# Altium footprint library XG_DW_POCT_2K10LED_V2.0_2024.11.151.PcbLib: 120 footprints (part 2 of 8)
Each footprint in its own frame and in the unit in brackets; x right, y up, seen from the top. Pads: shape width x height; smd on the part's side, far side on the other; paste and mask are expansions set on the pad; w line width, h text height; cw(c..) or ccw(c..) is an arc to the next point about the centre after c.
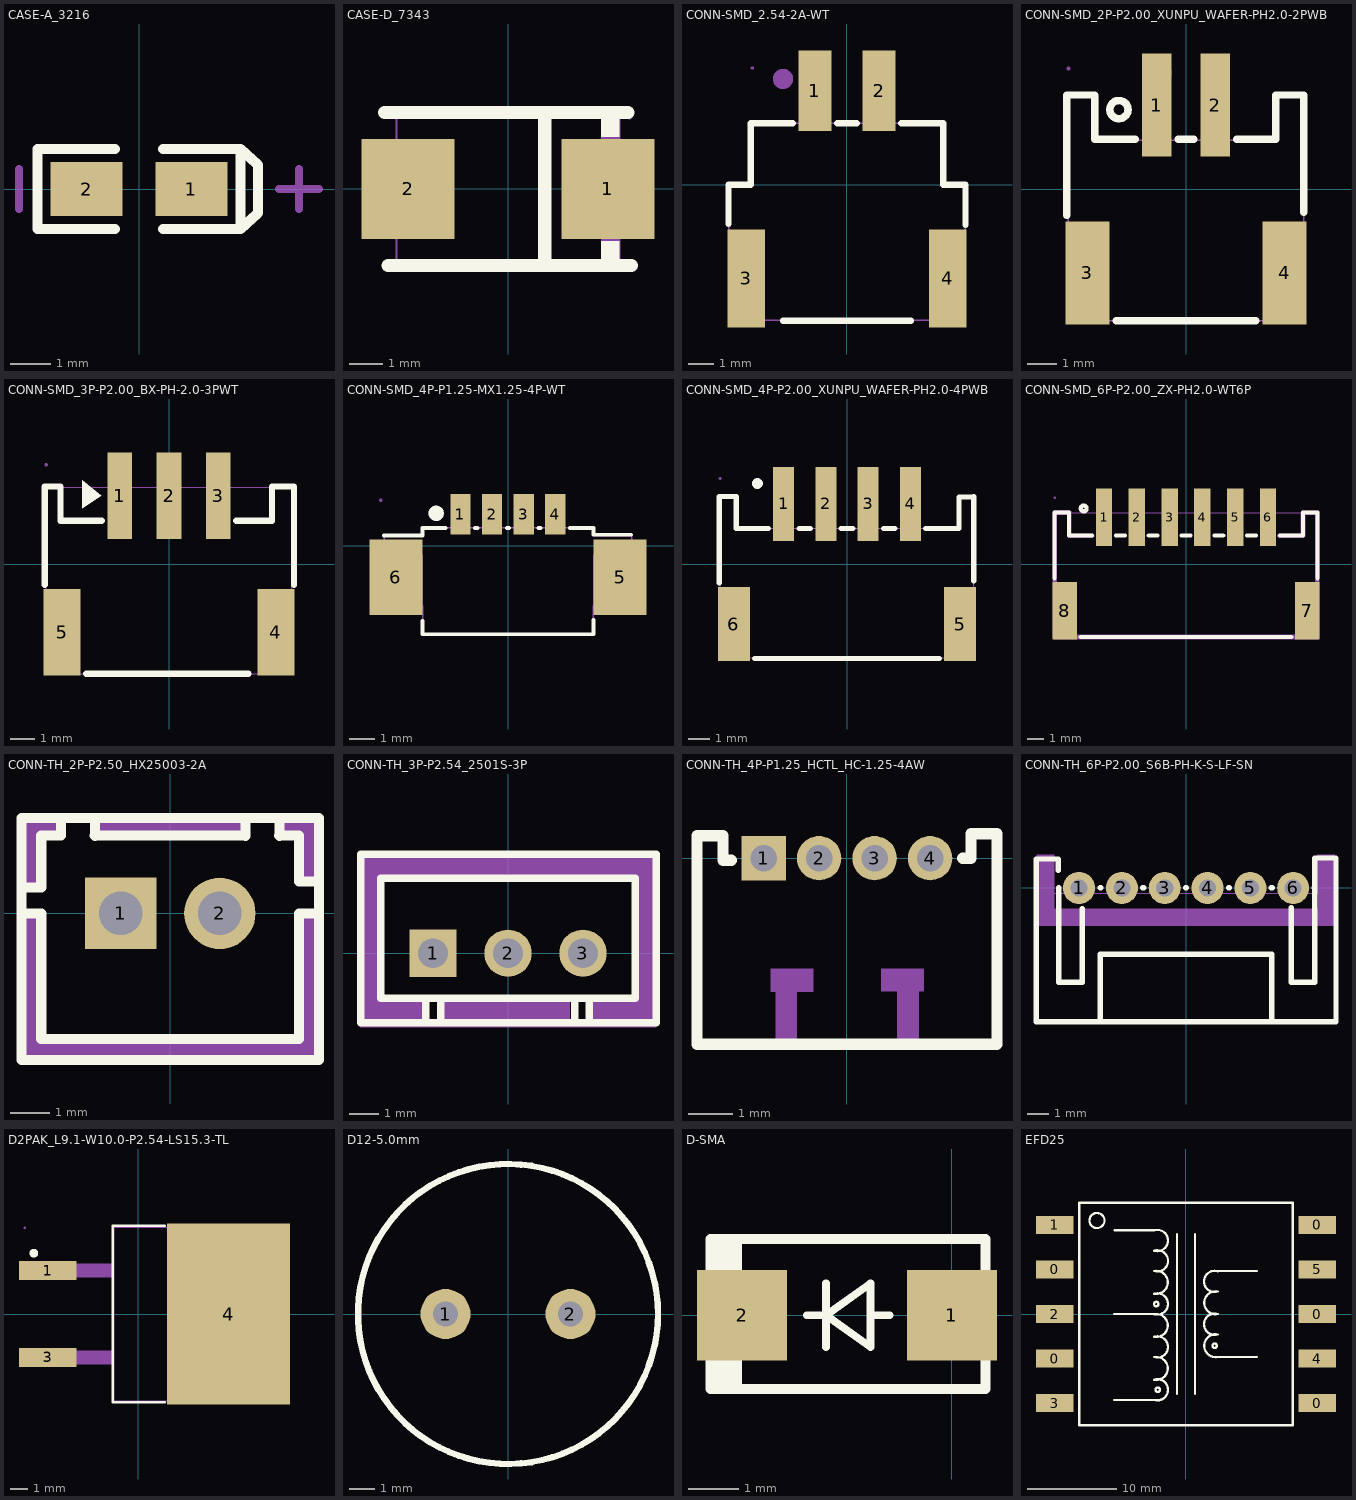
[diagram p1: the footprints below, top view; thin cyan lines are the x and y axes]

## CASE-A_3216 [mm]
height 7.7
pads (2):
  rect 1.8x1.35 smd: 1(1.31,0) 2(-1.31,0)
Top Overlay:
  lines w0.254: -0.6,-1.002 -2.537,-1.002 -2.537,1.002 -0.6,1.002 ; 0.6,-1.002 2.537,-1.002 ; 0.6,1.002 2.537,1.002 ; 2.537,-1.002 2.973,-0.6 2.973,0.6 2.537,1.002 ; 2.537,-1.002 2.537,1.002
Mechanical 15:
  lines w0.203: -3,-0.5 -3,0.5 ; 3.5,0 4.5,0 ; 4,-0.5 4,0.5
3D body "User Library-AVX_ACASE.STEP": height 1.71, standoff 0, extent -1.7,-0.84 1.7,0.84

## CASE-D_7343 [mm]
pads (2):
  rect 2.799x3.01 smd: 1(3,0) 2(-3,0)
Top Overlay:
  region: 3.348,-2.3 3.348,-1.565 2.798,-1.565 2.798,-2.285 2.813,-2.3 2.968,-2.3
  region: 2.798,2.3 2.798,1.565 3.348,1.565 3.348,2.285 3.333,2.3 3.178,2.3
  lines w0.4: -3.7,2.3 3.6,2.3 ; -3.6,-2.3 3.7,-2.3 ; 1.1,-2.3 1.101,2.3
Mechanical 6:
  region: 3.35,-2.15 3.35,-1.205 2.8,-1.205 2.8,-2.15
  region: 2.8,2.15 2.8,1.205 3.35,1.205 3.35,2.15
  region: 2.8,0.85 2.8,-0.85 2.4,-0.85 2.4,0.85
  region: 1.766,0.245 3.466,0.245 3.466,-0.155 1.766,-0.155
  region: -3.6,0.2 -1.9,0.2 -1.9,-0.2 -3.6,-0.2
Mechanical 15:
  region: 3.65,-1.2 2.35,-1.2 2.35,1.2 3.65,1.2
  region: -2.35,-1.2 -3.65,-1.2 -3.65,1.2 -2.35,1.2
  region: 3.71,2.15 3.71,2.174 3.675,2.209 3.626,2.209 3.591,2.175 3.59,2.15 3.591,2.126 3.626,2.091 3.674,2.091 3.709,2.126 3.71,2.15
  lines w0.051: -3.35,-2.15 3.35,-2.15 3.35,2.15 -3.35,2.15 -3.35,-2.15

## CONN-SMD_2.54-2A-WT [mm]
pads (4):
  rect 1.3x3.2 smd paste+0 mask+0.05: 1(-1.27,3.725) 2(1.27,3.725)
  rect 1.5x3.9 smd paste+0 mask+0.05: 3(-4,-3.725) 4(4,-3.725)
Top Overlay:
  lines w0.254: -4.7,-1.55 -4.7,0 -3.81,0 -3.81,2.432 -2.151,2.432 ; -2.54,-5.409 2.54,-5.409 ; -0.389,2.432 0.389,2.432 ; 2.151,2.432 3.81,2.432 3.81,0 4.7,0 4.7,-1.6
Mechanical 6:
  circle w0.4: c-2.54,4.191 r0.2
Mechanical 15:
  region: 3.75,-2.375 4.15,-2.375 4.15,-5.375 3.75,-5.375
  region: -4.15,-2.375 -3.75,-2.375 -3.75,-5.375 -4.15,-5.375
  region: 0.95,4.625 1.59,4.625 1.59,2.375 0.95,2.375
  region: -1.59,4.625 -0.95,4.625 -0.95,2.375 -1.59,2.375
  region: -3.69,4.625 -3.691,4.649 -3.726,4.683 -3.774,4.683 -3.809,4.649 -3.81,4.625 -3.809,4.601 -3.774,4.567 -3.726,4.567 -3.691,4.601 -3.69,4.625
  lines w0.051: -4.7,-4.25 -3.75,-4.25 -3.75,-5.375 3.75,-5.375 3.75,-4.25 4.7,-4.25 4.7,0 3.75,0 3.75,2.425 -3.75,2.425 -3.75,0 -4.7,0 -4.7,-4.25

## CONN-SMD_2P-P2.00_XUNPU_WAFER-PH2.0-2PWB [mm]
pads (4):
  rect 1x3.5 smd paste+0 mask+0.05: 1(-1,2.85) 2(1,2.85)
  rect 1.5x3.5 smd paste+0 mask+0.05: 3(-3.35,-2.85) 4(3.35,-2.85)
Top Overlay:
  circle w0.254: c-2.28,2.7 r0.31
  lines w0.254: -4.048,-0.898 -4.048,3.196 -3.097,3.196 -3.097,1.697 -1.779,1.697 -1.731,1.697 ; -2.369,-4.475 0.164,-4.475 2.369,-4.475 ; -0.269,1.697 0.269,1.697 ; 1.731,1.697 3.049,1.697 3.049,3.196 4,3.196 4,-0.798
Mechanical 6:
  circle w0.5: c-0.99,3.96 r0.25
Mechanical 15:
  region: -3.5,-1.875 -3.2,-1.875 -3.2,-4.375 -3.5,-4.375
  region: 3.2,-1.875 3.5,-1.875 3.5,-4.375 3.2,-4.375
  region: -1.25,4.1 -0.75,4.1 -0.75,1.6 -1.25,1.6
  region: 0.75,4.1 1.25,4.1 1.25,1.6 0.75,1.6
  region: -3.94,4.1 -3.94,4.125 -3.975,4.159 -4.025,4.159 -4.06,4.125 -4.06,4.1 -4.06,4.076 -4.025,4.041 -3.975,4.041 -3.94,4.075 -3.94,4.1
  lines w0.051: -4,-4.475 4,-4.475 4,1.655 4,3.115 3,3.115 3,1.655 -3,1.655 -3,3.115 -4,3.115 -4,1.655 -4,-4.475

## CONN-SMD_3P-P2.00_BX-PH-2.0-3PWT [mm]
pads (5):
  rect 1x3.5 smd paste+0 mask+0.05: 1(-2,2.775) 2(0,2.775) 3(2,2.775)
  rect 1.5x3.5 smd paste+0 mask+0.05: 4(4.35,-2.775) 5(-4.35,-2.775)
Top Overlay:
  region: -2.762,2.775 -3.524,3.41 -3.524,2.267
  lines w0.254: -5.048,-0.844 -5.048,3.156 -4.413,3.156 -4.413,1.759 -2.731,1.759 ; -3.369,-4.464 3.23,-4.464 ; 2.731,1.759 4.193,1.759 4.193,3.156 5.082,3.156 5.082,-0.844
Mechanical 6:
  region: -2.762,2.775 -3.524,3.41 -3.524,2.267
Mechanical 15:
  region: -4.94,4.037 -4.941,4.061 -4.976,4.096 -5.024,4.096 -5.059,4.061 -5.06,4.037 -5.059,4.013 -5.024,3.979 -4.976,3.979 -4.941,4.013 -4.94,4.037
  region: -4.5,-1.963 -4.2,-1.963 -4.2,-4.463 -4.5,-4.463
  region: 4.2,-1.963 4.5,-1.963 4.5,-4.463 4.2,-4.463
  region: 1.75,4.037 2.25,4.037 2.25,1.837 1.75,1.837
  region: -0.25,4.037 0.25,4.037 0.25,1.837 -0.25,1.837
  region: -2.25,4.037 -1.75,4.037 -1.75,1.837 -2.25,1.837
  lines w0.051: -5,-4.463 5,-4.463 5,3.127 -5,3.127 -5,-4.463

## CONN-SMD_4P-P1.25-MX1.25-4P-WT [mm]
pads (6):
  rect 0.8x1.6 smd paste+0 mask+0.05: 1(-1.88,1.25) 2(-0.63,1.25) 3(0.62,1.25) 4(1.87,1.25)
  rect 2.1x3 smd paste+0 mask+0.05: 5(4.43,-1.25) 6(-4.43,-1.25)
Top Overlay:
  circle w0.3: c-2.84,1.28 r0.15
  lines w0.152: -4.901,0.399 -3.38,0.399 -3.38,0.43 -3.38,0.699 -2.46,0.699 ; -3.38,-2.98 -3.38,-3.5 3.38,-3.5 3.38,-2.93 ; -0.05,0.7 0.04,0.7 ; 1.2,0.7 1.29,0.7 ; 2.54,0.7 3.38,0.7 3.38,0.43 4.87,0.43 ; 2.54,0.7 2.45,0.7 2.54,0.7 ; 4.87,0.43 4.871,0.429 4.871,0.43 ; -1.3,0.7 -1.21,0.7 -1.3,0.7
Mechanical 6:
  circle w0.3: c-2.84,1.28 r0.15
Mechanical 15:
  region: -4.965,1.8 -4.966,1.824 -5.001,1.858 -5.049,1.858 -5.084,1.824 -5.085,1.8 -5.084,1.776 -5.049,1.742 -5.001,1.742 -4.966,1.776 -4.965,1.8
  region: 1.72,1.8 2.02,1.8 2.02,0.6 1.72,0.6
  region: -4.88,-2.37 -5.025,-2.17 -5.025,-0.56 -4.88,-0.36 -3.38,-0.36 -3.38,-2.37
  region: 4.88,-0.36 5.025,-0.56 5.025,-2.17 4.88,-2.37 3.38,-2.37 3.38,-0.36
  region: 0.47,1.8 0.77,1.8 0.77,0.6 0.47,0.6
  region: -0.78,1.8 -0.48,1.8 -0.48,0.6 -0.78,0.6
  region: -2.03,1.8 -1.73,1.8 -1.73,0.6 -2.03,0.6
  lines w0.051: -4.9,-2.369 -3.38,-2.369 -3.38,-3.5 3.38,-3.5 3.38,-2.369 4.9,-2.369 4.9,0.4 3.38,0.4 3.38,0.7 -3.38,0.7 -3.38,0.69 -3.38,0.4 -4.9,0.4 -4.9,-2.369

## CONN-SMD_4P-P2.00_XUNPU_WAFER-PH2.0-4PWB [mm]
pads (6):
  rect 1x3.5 smd paste+0 mask+0.05: 1(-3,2.85) 2(-1,2.85) 3(1,2.85) 4(3,2.85)
  rect 1.5x3.5 smd paste+0 mask+0.05: 5(5.35,-2.85) 6(-5.35,-2.85)
Top Overlay:
  circle w0.254: c-4.239,3.81 r0.127
  lines w0.254: -6.048,-0.898 -6.048,3.196 -5.25,3.196 -5.25,1.68 -3.731,1.68 ; -4.369,-4.475 2.131,-4.475 ; -2.269,1.68 -1.731,1.68 ; -1.836,-4.475 4.369,-4.475 ; -0.269,1.68 0.269,1.68 ; 1.731,1.68 2.269,1.68 ; 3.731,1.68 5.3,1.68 5.3,3.17 6,3.17 ; 6,3.18 6,-0.798
Mechanical 6:
  circle w0.25: c-3,3.03 r0.125
Mechanical 15:
  region: 2.75,4.05 3.25,4.05 3.25,1.65 2.75,1.65
  region: 0.75,4.05 1.25,4.05 1.25,1.65 0.75,1.65
  region: -1.25,4.05 -0.75,4.05 -0.75,1.65 -1.25,1.65
  region: -3.25,4.05 -2.75,4.05 -2.75,1.65 -3.25,1.65
  region: 5.25,-1.74 5.55,-1.74 5.55,-4.14 5.25,-4.14
  region: -5.55,-1.74 -5.25,-1.74 -5.25,-4.14 -5.55,-4.14
  region: -5.94,4.05 -5.941,4.074 -5.975,4.109 -6.024,4.109 -6.059,4.075 -6.06,4.05 -6.059,4.026 -6.024,3.992 -5.976,3.992 -5.941,4.026 -5.94,4.05
  lines w0.051: -6,-3.64 -5.2,-3.64 -5.2,-4.44 5.2,-4.44 5.2,-3.64 6,-3.64 6,3.15 5.3,3.15 5.3,1.69 -5.3,1.69 -5.3,3.15 -6,3.15 -6,-3.64

## CONN-SMD_6P-P2.00_ZX-PH2.0-WT6P [mm]
pads (8):
  rect 1x3.5 smd: 1(-5,2.85) 2(-3,2.85) 3(-1,2.85) 4(1,2.85) 5(3,2.85) 6(5,2.85)
  rect 1.5x3.5 smd: 7(7.4,-2.85) 8(-7.4,-2.85)
Top Overlay:
  circle w0.254: c-6.239,3.389 r0.18
  lines w0.254: -8.017,-0.869 -8.017,-0.528 -8.017,3.135 -7.128,3.135 -7.128,1.738 -5.731,1.738 ; -6.419,-4.445 6.419,-4.445 ; -4.269,1.738 -3.731,1.738 ; -2.269,1.738 -1.731,1.738 ; -0.269,1.738 0.269,1.738 ; 1.731,1.738 2.269,1.738 ; 3.731,1.738 4.269,1.738 ; 5.731,1.738 7.128,1.738 7.128,3.135 8.017,3.135 8.017,-0.528 8.017,-0.869
Mechanical 6:
  region: 5.7,1.857 7.008,1.857 7.008,3.135 7.008,3.16 7.027,3.207 7.063,3.243 7.11,3.262 7.135,3.262 8.015,3.262 8.04,3.262 8.087,3.243 8.123,3.207 8.142,3.16 8.142,3.135 8.142,-4.45 8.142,-4.475 8.123,-4.522 8.087,-4.558 8.04,-4.577 8.015,-4.577 -8,-4.577 -8.025,-4.577 -8.072,-4.558 -8.108,-4.522 -8.127,-4.475 -8.127,-4.45 -8.127,3.14 -8.127,3.165 -8.108,3.212 -8.072,3.248 -8.025,3.267 -8,3.267 -7.12,3.267 -7.095,3.267 -7.048,3.248 -7.012,3.212 -6.993,3.165 -6.993,3.14 -6.993,1.857 -5.73,1.857 -5.677,1.857 -5.603,1.783 -5.603,1.677 -5.677,1.603 -5.73,1.603 -7.12,1.603 -7.145,1.603 -7.192,1.622 -7.228,1.658 -7.247,1.705 -7.247,1.73 -7.247,3.013 -7.873,3.013 -7.873,-4.323 7.888,-4.323 7.888,3.008 7.262,3.008 7.262,1.73 7.262,1.705 7.243,1.658 7.207,1.622 7.16,1.603 7.135,1.603 5.7,1.603 5.647,1.603 5.573,1.677 5.573,1.783 5.647,1.857 5.7,1.857
Mechanical 15:
  region: -5.25,4.045 -4.75,4.045 -4.75,1.545 -5.25,1.545
  region: -3.25,4.045 -2.75,4.045 -2.75,1.545 -3.25,1.545
  region: -1.25,4.045 -0.75,4.045 -0.75,1.545 -1.25,1.545
  region: 0.75,4.045 1.25,4.045 1.25,1.545 0.75,1.545
  region: 2.75,4.045 3.25,4.045 3.25,1.545 2.75,1.545
  region: 4.75,4.045 5.25,4.045 5.25,1.545 4.75,1.545
  region: 7.25,-1.935 7.55,-1.935 7.55,-4.435 7.25,-4.435
  region: -7.55,-1.935 -7.25,-1.935 -7.25,-4.435 -7.55,-4.435
  region: -7.94,4.045 -7.941,4.069 -7.976,4.103 -8.024,4.103 -8.059,4.069 -8.06,4.045 -8.059,4.021 -8.024,3.987 -7.976,3.987 -7.941,4.021 -7.94,4.045
  lines w0.051: -8,-4.455 -8,3.135 8,3.135 8,-4.455 -8,-4.455

## CONN-TH_2P-P2.50_HX25003-2A [mm]
pads (2):
  rect 1.8x1.8 hole 1.1 paste+0 mask+0.05: 1(-1.25,0)
  round 1.8 hole 1.1 paste+0 mask+0.05: 2(1.25,0)
Top Overlay:
  lines w0.254: -3.75,-2.416 -3.75,0 -3.25,0 -3.25,-2.416 -3.25,-3.167 3.25,-3.167 3.25,-2.344 3.25,0 3.75,0 3.75,-2.344 ; -3.75,-1.603 -3.75,0.648 -3.25,0.65 -3.25,1.958 -2.75,1.958 -2.75,2.408 ; -1.9,1.95 -1.9,2.4 ; -1.9,1.958 1.9,1.958 ; 1.9,1.95 1.9,2.4 ; 2.75,1.95 2.75,2.399 ; 2.75,1.958 3.25,1.958 3.25,0.8 3.75,0.8 3.75,-1.501 ; -3.75,-3.7 3.75,-3.7 3.75,2.4 -3.75,2.4 -3.75,-3.7
Mechanical 6:
  region: 2.75,1.95 3.242,1.95 3.25,1.958 3.25,0.8 3.75,0.8 3.75,2.4 2.751,2.4 2.75,2.399
  region: -2.75,1.9 -3.241,1.9 -3.25,1.908 -3.25,0.75 -3.75,0.75 -3.75,2.35 -2.751,2.35 -2.75,2.349
  region: 3.25,0 3.75,0 3.75,-3.7 -3.75,-3.7 -3.75,-0.05 -3.25,0 -3.25,-3.167 3.25,-3.167
  region: 1.9,2.4 1.9,1.9 -1.9,1.9 -1.9,2.4
Mechanical 15:
  region: 0.93,0.32 1.57,0.32 1.57,-0.32 0.93,-0.32
  region: -1.57,0.32 -0.93,0.32 -0.93,-0.32 -1.57,-0.32
  region: -3.69,-3.5 -3.691,-3.476 -3.726,-3.442 -3.774,-3.442 -3.809,-3.476 -3.81,-3.5 -3.809,-3.524 -3.774,-3.559 -3.726,-3.558 -3.691,-3.524 -3.69,-3.5
  lines w0.051: -3.75,-3.5 -3.75,2.4 3.75,2.4 3.75,-3.5 -3.75,-3.5

## CONN-TH_3P-P2.54_2501S-3P [mm]
pads (3):
  rect 1.6x1.6 hole 1: 1(-2.54,0)
  round 1.6 hole 1: 2(0,0) 3(2.54,0)
Top Overlay:
  lines w0.254: -2.794,-2.35 -2.794,-1.524 ; -2.279,-2.35 -2.279,-1.524 ; 2.268,-2.35 2.268,-1.524 ; 2.751,-2.35 2.751,-1.524 ; -4.98,-2.35 5.02,-2.35 5.02,3.35 -4.98,3.35 -4.98,-2.35 ; -4.318,-1.524 -4.318,2.54 4.318,2.54 4.318,-1.524 -4.318,-1.524
Mechanical 6:
  region: 2.794,-2.286 2.794,-1.524 4.318,-1.524 4.318,2.54 -4.318,2.54 -4.318,-1.524 -2.794,-1.524 -2.794,-2.286 -5.08,-2.286 -5.08,3.302 5.08,3.302 5.08,-2.286
  region: -2.22,-2.3 2.098,-2.3 2.098,-1.538 -2.22,-1.538
Mechanical 15:
  region: -5,3.34 -4.975,3.34 -4.94,3.375 -4.94,3.425 -4.975,3.46 -5,3.46 -5.025,3.46 -5.06,3.425 -5.06,3.375 -5.025,3.34 -5,3.34
  region: -2.865,0.325 -2.215,0.325 -2.215,-0.325 -2.865,-0.325
  region: -0.325,0.325 0.325,0.325 0.325,-0.325 -0.325,-0.325
  region: 2.215,0.325 2.865,0.325 2.865,-0.325 2.215,-0.325
  lines w0.051: -5,-2.5 5,-2.5 5,3.4 -5,3.4 -5,-2.5

## CONN-TH_4P-P1.25_HCTL_HC-1.25-4AW [mm]
pads (4):
  rect 1x1 hole 0.6: 1(-1.875,0)
  round 1 hole 0.6: 2(-0.625,0) 3(0.625,0) 4(1.875,0)
Top Overlay:
  lines w0.254: -2.606,-0.045 -2.787,-0.045 -2.787,0.508 -3.375,0.508 -3.375,-0.045 -3.375,-4.191 3.375,-4.191 ; 2.612,0 2.794,0 ; 2.794,0.01 2.794,0.553 3.382,0.553 3.382,-4.146
Mechanical 15:
  region: -1.124,-4.193 -1.124,-3.003 -0.754,-3.003 -0.754,-2.493 -1.714,-2.493 -1.714,-3.003 -1.604,-3.003 -1.604,-4.193
  region: 1.14,-4.19 1.14,-3 0.77,-3 0.77,-2.49 1.73,-2.49 1.73,-3 1.62,-3 1.62,-4.19

## CONN-TH_6P-P2.00_S6B-PH-K-S-LF-SN [mm]
pads (6):
  round 1.5 hole 0.8: 1(-5,0) 2(-3,0) 3(-1,0) 4(1,0) 5(3,0) 6(5,0)
Top Overlay:
  lines w0.254: -5.969,0.818 -5.969,1.35 -7,1.35 -7,-6.25 7,-6.25 7,1.35 ; -5.95,0 -5.95,-4.4 -4.85,-4.4 -4.86,-0.98 ; -4.019,0 -3.981,0 ; -4,-6.2 -4,-3.1 4,-3.1 4,-6.2 ; -2.019,0 -1.981,0 ; -0.019,0 0.019,0 ; 1.981,0 2.019,0 ; 3.981,0 4.019,0 ; 4.92,-0.93 4.9,-4.4 6,-4.4 6,0 ; 5.981,0 6,0 ; 7,1.397 6,1.397 6,0
Mechanical 6:
  region: 6.15,1.54 6.95,1.54 6.95,-1.76 -6.95,-1.76 -6.95,1.54 -6.15,1.54 -6.15,-0.98 6.16,-0.98
Mechanical 15:
  region: 5.25,-0.25 4.75,-0.25 4.75,0.25 5.25,0.25
  region: 3.25,-0.25 2.75,-0.25 2.75,0.25 3.25,0.25
  region: 1.25,-0.25 0.75,-0.25 0.75,0.25 1.25,0.25
  region: -0.75,-0.25 -1.25,-0.25 -1.25,0.25 -0.75,0.25
  region: -2.75,-0.25 -3.25,-0.25 -3.25,0.25 -2.75,0.25
  region: -4.75,-0.25 -5.25,-0.25 -5.25,0.25 -4.75,0.25
  region: -6.89,-6.25 -6.89,-6.225 -6.925,-6.19 -6.975,-6.19 -7.01,-6.225 -7.01,-6.25 -7.01,-6.275 -6.975,-6.31 -6.925,-6.31 -6.89,-6.275 -6.89,-6.25
  lines w0.051: -6.95,-6.25 -6.95,1.54 -6.15,1.54 -6.15,-0.25 6.15,-0.25 6.15,1.54 6.95,1.54 6.95,-6.25 -6.95,-6.25

## D2PAK_L9.1-W10.0-P2.54-LS15.3-TL [mil]
pads (3):
  rect 132.23x44.65 smd: 1(-208.1,100) 3(-208.1,-100)
  rect 282.7x416 smd: 4(208.1,0)
Top Overlay:
  circle w10: c-240,140 r5
  lines w6: 60.75,-203 -58.3,-203 -58.3,203 60.75,203
Mechanical 6:
  circle w11.81: c-226.44,98.54 r5.91
Mechanical 15:
  region: 66.75,-200 66.75,200 297.23,200 337.23,160 337.23,-160 297.23,-200
  region: -162.38,-115.94 -162.38,-84.06 -54.9,-84.06 -54.9,-115.94
  region: -261.99,-115.94 -261.99,-84.06 -161.99,-84.06 -161.99,-115.94
  region: -162.38,84.06 -162.38,115.94 -54.9,115.94 -54.9,84.06
  region: -261.99,84.06 -261.99,115.94 -161.99,115.94 -161.99,84.06
  region: -263.17,198.82 -263.17,197.84 -261.78,196.46 -259.83,196.45 -258.44,197.84 -258.44,198.82 -258.44,199.79 -259.82,201.18 -261.78,201.18 -263.17,199.8 -263.17,198.82
  lines w2: -55.3,-200 287.23,-200 287.23,200 -55.3,200 -55.3,-200

## D12-5.0mm [mm]
pads (2):
  round 2 hole 1: 1(-2.5,0) 2(2.5,0)
Top Overlay:
  circle w0.254: c0,0 r6

## D-SMA [mm]
pads (2):
  rect 1.8x1.8 smd: 1(0,0) 2(-4.191,0)
Top Overlay:
  rectangle: -4.826,-1.476 -4.191,-0.889
  rectangle: -4.826,0.889 -4.191,1.524
  lines w0.152: -2.896,0 -2.515,0 ; -2.515,-0.635 -2.515,0 ; -2.515,0.635 -2.515,0 ; -1.626,0 -1.245,0 ; -2.515,0 -1.626,0.635 -1.626,-0.635 -2.515,0
  lines w0.2: -4.826,-1.476 -4.826,1.524 0.674,1.524 0.674,-1.476 -4.826,-1.476

## EFD25 [mm]
pads (10):
  rect 4.2x2 smd: 0(-14.75,-5) 0(-14.75,5) 0(14.75,-10) 0(14.75,0) 0(14.75,10) 1(-14.75,10) 2(-14.75,0) 3(-14.75,-10) 4(14.75,-5) 5(14.75,5)
Top Overlay:
  circle w0.254: c-10,10.5 r0.848
  circle w0.254: c-3.175,-8.509 r0.25
  circle w0.254: c3.218,-3.564 r0.25
  circle w0.254: c-3.342,1.119 r0.25
  lines w0.254: -8.06,-9.652 -3.624,-9.652 ; -8.06,0 -3.624,0 ; -8,9.398 -3.564,9.398 cw(c-3.218,8.255) -3.564,7.112 ; -3.564,-9.652 ccw(c-3.218,-8.509) -3.564,-7.366 ; -3.564,-7.382 ccw(c-3.342,-6.112) -3.564,-4.842 ccw(c-3.218,-3.699) -3.564,-2.556 ccw(c-3.342,-1.286) -3.564,-0.016 ccw(c-3.218,1.127) -3.564,2.27 ; -3.556,2.286 ccw(c-3.334,3.556) -3.556,4.826 ccw(c-3.21,5.969) -3.556,7.112 ; -1,-9 -1,9 ; 1,-9 1,9 ; 3.497,-4.826 7.933,-4.826 ; 3.497,4.826 7.933,4.826 ; 3.564,-4.834 cw(c3.342,-3.564) 3.564,-2.294 cw(c3.218,-1.151) 3.564,-0.008 cw(c3.342,1.262) 3.564,2.532 ; 3.564,2.516 cw(c3.218,3.659) 3.564,4.802 ; -12,-12.5 -12,12.5 12,12.5 12,-12.5 -12,-12.5